# Altium schematic symbol library SnapEDAsch.SchLib: 1 symbol
Pins are listed as number, name and electrical type; pins without a type are passive.

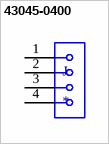
[diagram p0: symbol 43045-0400]

## 43045-0400
designator J
Connector Header Through Hole, Right Angle 4 position 0.118 _3.00mm_; MF: Molex; MP: 43045-0400; Value: *; Package: None; Price: None; Availability: Unavailable; SnapEDA_Link: https://www.snapeda.com/parts/43045-0400/Molex/view-part/125878/?ref=snap
footprint MOLEX_43045-0400
footprint MOLEX_43045-0400
pins: 1, 2, 3, 4